# Altium footprint library LWQ'S.PcbLib: 10 footprints
Each footprint in its own frame and in the unit in brackets; x right, y up, seen from the top. Pads: shape width x height; smd on the part's side, far side on the other; paste and mask are expansions set on the pad; w line width, h text height; cw(c..) or ccw(c..) is an arc to the next point about the centre after c.
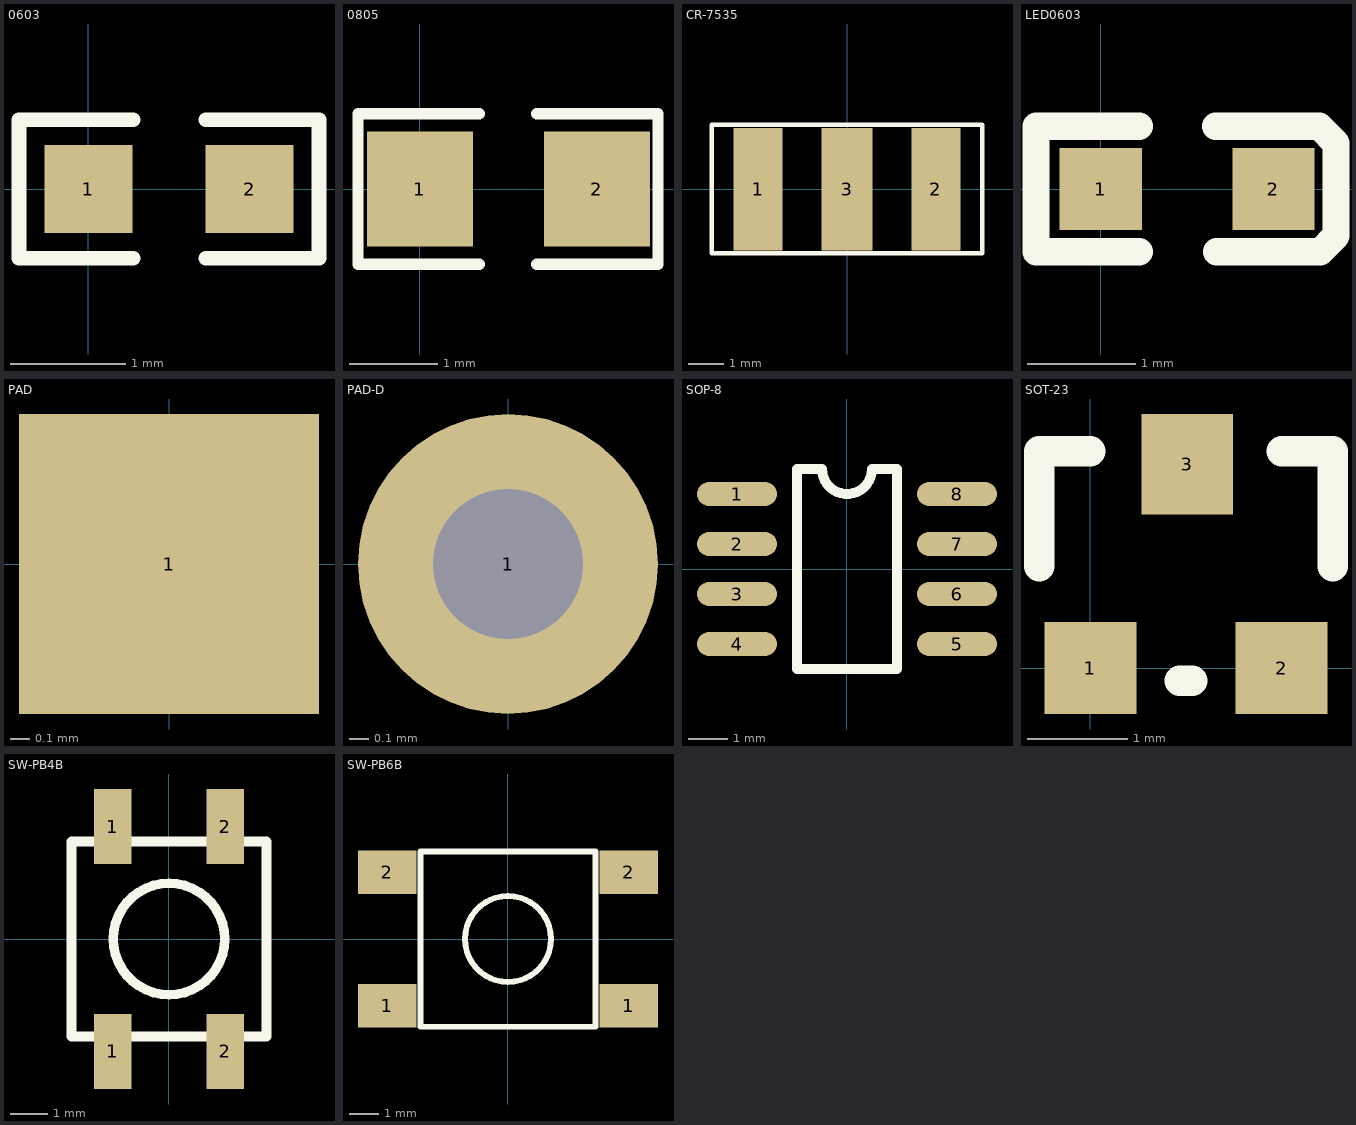
[diagram p0: the footprints below, top view; thin cyan lines are the x and y axes]

## 0603 [mil]
pads (2):
  rect 30x30 smd: 1(0,0) 2(55,0)
Top Overlay:
  lines w5: 15.31,-23.62 -23.62,-23.62 -23.62,23.62 15.31,23.62 ; 40,-23.62 78.62,-23.62 78.62,23.62 40,23.62

## 0805 [mm]
pads (2):
  rect 1.2x1.3 smd: 1(0,0) 2(2,0)
Top Overlay:
  lines w0.127: 0.67,-0.85 -0.7,-0.85 -0.7,0.85 0.67,0.85 ; 1.32,-0.85 2.69,-0.85 2.69,0.85 1.32,0.85

## CR-7535 [mm]
pads (3):
  rect 1.4x3.5 smd: 1(-2.54,0) 2(2.54,0)
  rect 1.45x3.5 smd: 3(0,0)
Top Overlay:
  lines w0.127: -3.87,-1.83 -3.87,1.84 3.87,1.84 3.87,-1.83 -3.87,-1.83

## LED0603 [mil]
pads (2):
  rect 30x30 smd: 1(0,0) 2(62.87,0)
Top Overlay:
  lines w10: 13.94,-22.83 -23.62,-22.83 -23.62,22.83 13.94,22.83 ; 41.77,22.83 74.8,22.83 79.53,22.83 85.65,16.72 85.65,-17.07 79.88,-22.83 75.16,-22.83 42.13,-22.83

## PAD [mil]
pads (1):
  rect 60x60 all layers, no hole: 1(0,0)

## PAD-D [mil]
pads (1):
  round 60 hole 30: 1(0,0)
via 16920,-49999 diameter 50 hole 28

## SOP-8 [mil]
pads (8):
  oval 80x24 smd: 1(-110,75) 2(-110,25) 3(-110,-25) 4(-110,-75) 5(110,-75) 6(110,-25) 7(110,25) 8(110,75)
Top Overlay:
  lines w10: -50,-100 -50,100 -25,100 ccw(c0,100) 25,100 50,100 50,-100 -50,-100

## SOT-23 [mil]
pads (3):
  rect 36x36 smd: 1(0,0) 2(75,0)
  rect 36x39.37 smd: 3(38,80)
Top Overlay:
  lines w12: -20,40 -20,85 0,85 ; 35,-5 40,-5 ; 75,85 95,85 95,40

## SW-PB4B [mm]
pads (4):
  rect 1x2 smd: 1(-1.5,-3) 1(-1.5,3) 2(1.5,-3) 2(1.5,3)
Top Overlay:
  circle w0.254: c0,0 r1.487
  lines w0.254: -2.6,-2.6 -2.6,2.6 2.6,2.6 2.6,-2.6 -2.6,-2.6

## SW-PB6B [mm]
pads (4):
  rect 2x1.5 smd: 1(-4.135,-2.286) 1(4.135,-2.286) 2(-4.135,2.286) 2(4.135,2.286)
Top Overlay:
  circle w0.2: c0,0 r1.471
  lines w0.2: -3,-3.006 -3,2.994 3,2.994 3,-3.006 -3,-3.006